# EAGLE library part 5747840-4 (library SamacSys_Parts)
9way r/a PCB D plug w/threaded insert,6A Source: Datasheet <http://www.te.com/commerce/DocumentDelivery/DDEController?Action=srchrtrv&DocNm=82068_AMPLIMITE_Right-Angle_Posted_Conn&DocType=Catalog Section&DocLang=English&PartCntxt=>
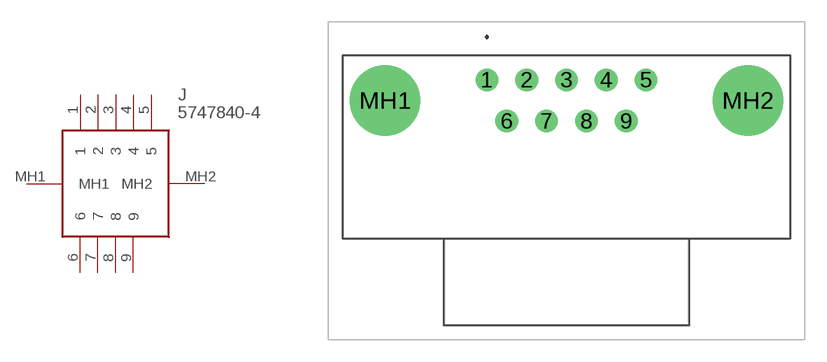
[diagram p86: symbol with the pads of 57478404; footprint 57478404]

Designator prefix J

## 5747840-4 (DESCRIPTION: 9way r/a PCB D plug w/threaded insert,6A; HEIGHT: 12.93mm; MANUFACTURER_NAME: TE Connectivity; MANUFACTURER_PART_NUMBER: 5747840-4; MOUSER_PART_NUMBER: 571-5747840-4; MOUSER_PRICE-STOCK: https://www.mouser.co.uk/ProductDetail/TE-Connectivity/5747840-4?qs=x6EjVpvqMVP9KXD3S9b%252Bdw%3D%3D)  [57478404]
1  1
2  2
3  3
4  4
5  5
6  6
7  7
8  8
9  9
MH1  MH1
MH2  MH2

## Footprint 57478404 (pad centres in mm)
5747840-4-1
drill 1.04 pad 1.56: 1 0,0; 2 2.74,0; 3 5.48,0; 4 8.22,0; 5 10.96,0; 6 1.37,-2.84; 7 4.11,-2.84; 8 6.85,-2.84; 9 9.59,-2.84
drill 3.25 pad 4.875: MH1 -7.015,-1.42; MH2 17.975,-1.42